# EAGLE library part USB-B-MICRO-SMD (library KnowledgeCentric)
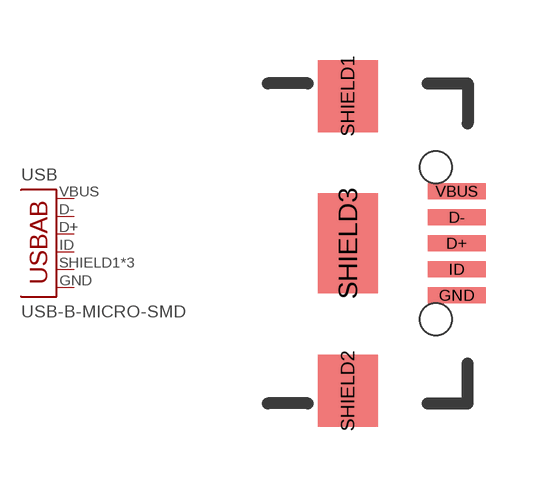
[diagram p1: symbol with the pads of USB-B-MICRO-SMD; footprint USB-B-MICRO-SMD]

Designator prefix USB

## USB-B-MICRO-SMD  [USB-B-MICRO-SMD]
D+  D+
D-  D-
GND  GND
ID  USBID
SHIELD1  SHIELD
SHIELD2  SHIELD
SHIELD3  SHIELD
VBUS  VBUS

## Footprint USB-B-MICRO-SMD (pad centres in mm)
smd 1.45 x 0.4: D+ 2.725,0; D- 2.725,0.65; GND 2.725,-1.3; ID 2.725,-0.65; VBUS 2.725,1.3
smd 1.5 x 1.8: SHIELD1 0,3.685; SHIELD2 0,-3.685
smd 1.5 x 2.5: SHIELD3 0,0
hole 0.8 at 2.2,1.9
hole 0.8 at 2.2,-1.9